# Altium schematic symbol library MICs.SchLib: 3 symbols
Pins are listed as number, name and electrical type; pins without a type are passive.

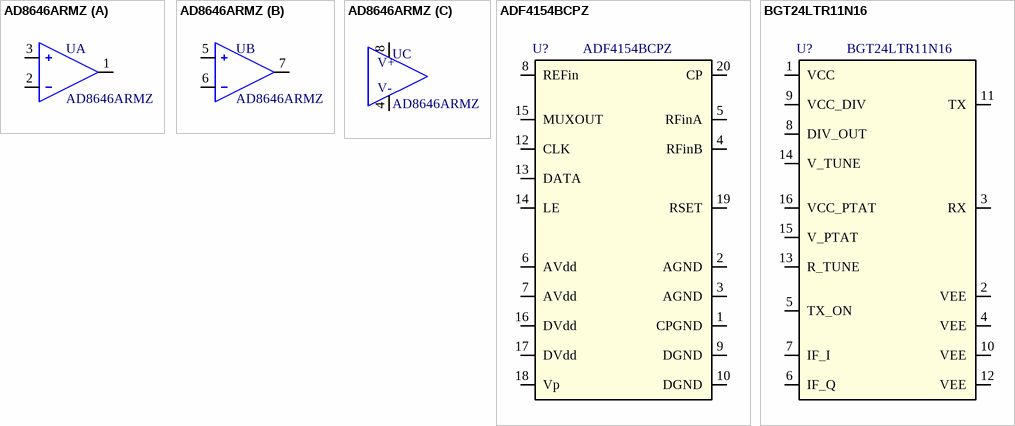
[diagram p0: symbols AD8646ARMZ to BGT24LTR11N16]

## AD8646ARMZ
designator U
24MHz R-t-R Operational Amp (2 Channels); Manufacturer: Analog Devices; Part Number: AD8646ARMZ; Package: 8-pin MSOP; Order Code: AD8646ARMZ
footprint AD8646ARMZ (8-Lead MSOP (RM-8))
part A pins: 1, 2, 3
part B pins: 5, 6, 7
part C pins: 4, 8
part C text: V+; V-

## ADF4154BCPZ
designator U?
Fractional-N PLL; Manufacturer: Analog Devices; Part Number: ADF4154BCPZ; Package: LFCSP_WQ (CP-20-6); Order Code: ADF4154BCPZ
footprint ADF4154BCPZ (20-LFCSP_WQ [CP-20-6])
pins: 1 CPGND, 2 AGND, 3 AGND, 4 RFinB, 5 RFinA, 6 AVdd, 7 AVdd, 8 REFin, 9 DGND, 10 DGND, 12 CLK, 13 DATA, 14 LE, 15 MUXOUT, 16 DVdd, 17 DVdd, 18 Vp, 19 RSET, 20 CP

## BGT24LTR11N16
designator U?
24GHz transceiver MMIC; Manufacturer: Infineon; Part Number: BGT24LTR11N16; Package: TSNP-16-9; Order Code: BGT24LTR11N16
footprint BGT24LTR11N16 (TSNP-16-9)
pins: 1 VCC, 2 VEE, 3 RX, 4 VEE, 5 TX_ON, 6 IF_Q, 7 IF_I, 8 DIV_OUT, 9 VCC_DIV, 10 VEE, 11 TX, 12 VEE, 13 R_TUNE, 14 V_TUNE, 15 V_PTAT, 16 VCC_PTAT